# Altium footprint library Passive.PcbLib: 235 footprints (part 2 of 15)
Each footprint in its own frame and in the unit in brackets; x right, y up, seen from the top. Pads: shape width x height; smd on the part's side, far side on the other; paste and mask are expansions set on the pad; w line width, h text height; cw(c..) or ccw(c..) is an arc to the next point about the centre after c.
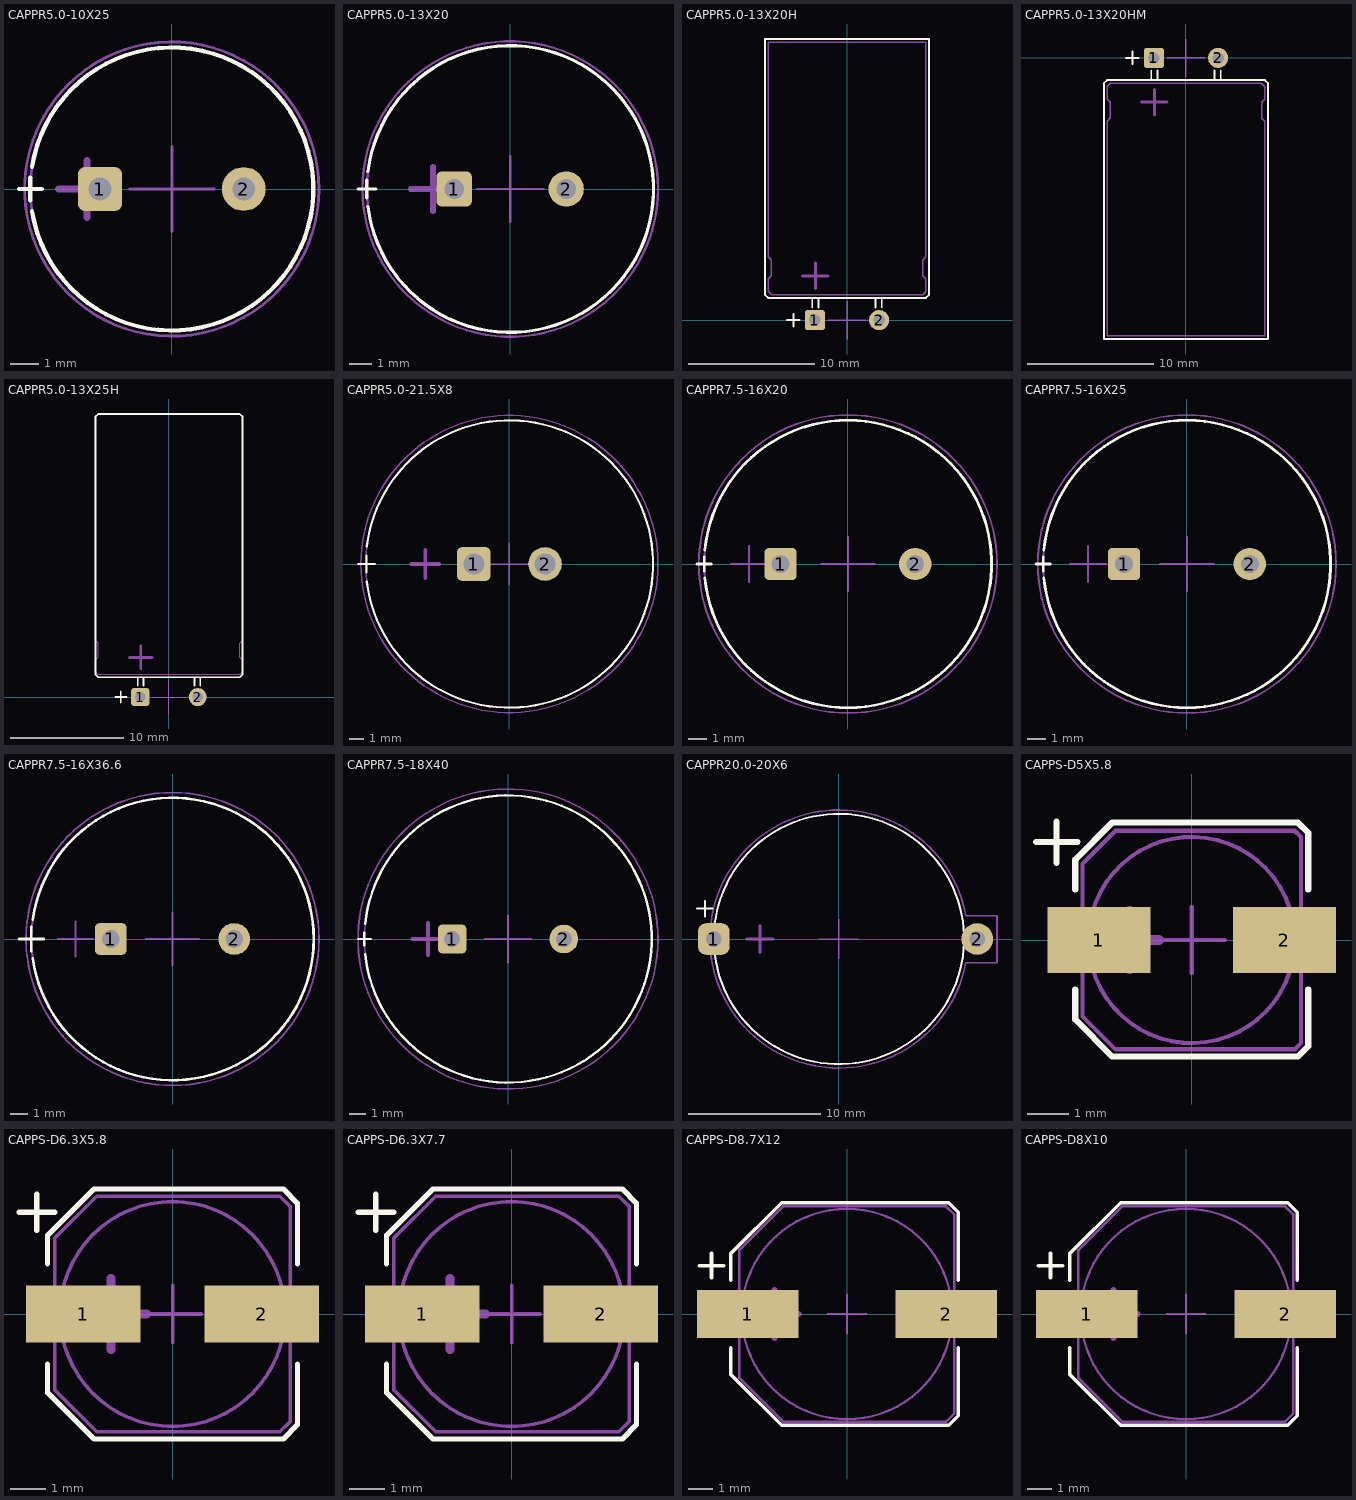
[diagram p1: the footprints below, top view; thin cyan lines are the x and y axes]

## CAPPR5.0-10X25 [mm] "Capacitor polarized radial D10x25mm R5.0mm"
height 25
pads (2):
  rrect30% 1.55x1.55 hole 0.8: 1(-2.54,0)
  round 1.55 hole 0.8: 2(2.54,0)
Top Overlay:
  lines w0.15: -5.4,0 -4.6,0 ; -5,-0.4 -5,0.4 ; -4.938,-0.782 ccw(c0,0) -4.938,0.782
Mechanical 13:
  circle w0.1: c0,0 r5
  lines w0.25: -4,0 -2,0 ; -3,-1 -3,1
Mechanical 15:
  circle w0.1: c0,0 r5.2
  lines w0.102: -1.5,0 1.5,0 ; 0,-1.5 0,1.5
3D body: height 25, standoff 0, extent -5,-5 5,5

## CAPPR5.0-13X20 [mm] "Capacitor polarized radial D13x20mm R5.0mm"
height 20
pads (2):
  rrect30% 1.6x1.6 hole 0.9: 1(-2.54,0)
  round 1.6 hole 0.9: 2(2.54,0)
Top Overlay:
  lines w0.15: -6.9,0 -6.1,0 ; -6.5,-0.4 -6.5,0.4 ; -6.452,-0.792 ccw(c0,0) -6.452,0.792
Mechanical 13:
  circle w0.1: c0,0 r6.5
  lines w0.25: -4.5,0 -2.5,0 ; -3.5,-1 -3.5,1
Mechanical 15:
  circle w0.1: c0,0 r6.7
  lines w0.102: -1.5,0 1.5,0 ; 0,-1.5 0,1.5
3D body: height 20, standoff 0, extent -6.5,-6.5 6.5,6.5

## CAPPR5.0-13X20H [mm] "Capacitor polarized radial D13x20mm R5.0mm horizontal"
height 13
pads (2):
  rrect30% 1.6x1.6 hole 0.9: 1(-2.54,0)
  round 1.6 hole 0.9: 2(2.54,0)
Top Overlay:
  lines w0.15: -4.75,0 -3.75,0 ; -4.25,-0.5 -4.25,0.5 ; -2.75,1 -2.75,1.75 ; -2.25,1 -2.25,1.75 ; 2.25,1 2.25,1.75 ; 2.75,1 2.75,1.75 ; -6.25,1.75 -6.25,1.75 ; -6.25,1.75 6.25,1.75 6.5,2 6.5,22.25 -6.5,22.25 -6.5,2 -6.25,1.75
Mechanical 13:
  lines w0.102: -6.25,2.275 -6.25,3.275 -6,3.525 -6,4.775 -6.25,5.025 -6.25,22 6.25,22 6.25,5 6,4.75 6,3.5 6.25,3.25 6.25,2.25 6,2 -5.975,2 -6.25,2.275
  lines w0.25: -3.5,3.5 -1.5,3.5 ; -2.5,2.5 -2.5,4.5
Mechanical 15:
  lines w0.102: -1.5,0 1.5,0 ; 0,-1.5 0,1.5
3D body: height 10.27, standoff 2.3, extent -3.992,21.55 3.992,22.05
3D body: height 10.27, standoff 2.3, extent -3.992,1.975 3.992,2.475
3D body: height 6.6, standoff 6, extent -2.85,-0.3 -2.253,0.297
3D body: height 6.6, standoff 6, extent -2.85,-0.001 -2.251,2.099
3D body: height 6.3, standoff -3, extent -2.85,-0.3 -2.252,0.299
3D body: height 12.5, standoff 0.05, extent -6.238,2 6.238,3.5
3D body: height 12.15, standoff 0.4, extent -5.888,3.5 5.888,4.75
3D body: height 12.5, standoff 0.05, extent -6.238,4.75 6.238,22
3D body: height 6.3, standoff -3, extent 2.252,-0.3 2.85,0.299
3D body: height 6.6, standoff 6, extent 2.251,-0.001 2.85,2.099
3D body: height 6.6, standoff 6, extent 2.253,-0.3 2.85,0.297

## CAPPR5.0-13X20HM [mm] "Capacitor polarized radial D13x20mm R5.0mm horizontal mirrored"
height 13
pads (2):
  rrect30% 1.6x1.6 hole 0.9: 1(-2.54,0)
  round 1.6 hole 0.9: 2(2.54,0)
Top Overlay:
  lines w0.15: -4.75,0 -3.75,0 ; -4.25,-0.5 -4.25,0.5 ; -2.75,-1.75 -2.75,-1 ; -2.25,-1.75 -2.25,-1 ; 2.25,-1.75 2.25,-1 ; 2.75,-1.75 2.75,-1 ; 6.25,-1.75 6.5,-2 6.5,-22.25 -6.5,-22.25 -6.5,-2 -6.25,-1.75 6.25,-1.75 ; 6.25,-1.75 6.25,-1.75
Mechanical 13:
  lines w0.102: -6.25,-22 -6.25,-5 -6,-4.75 -6,-3.5 -6.25,-3.25 -6.25,-2.25 -6,-2 5.975,-2 6.25,-2.275 6.25,-3.275 6,-3.525 6,-4.775 6.25,-5.025 6.25,-22 -6.25,-22
  lines w0.25: -3.5,-3.5 -1.5,-3.5 ; -2.5,-4.5 -2.5,-2.5
Mechanical 15:
  lines w0.102: -1.5,0 1.5,0 ; 0,-1.5 0,1.5
3D body: height 6.6, standoff 6, extent -2.85,-0.297 -2.253,0.3
3D body: height 6.6, standoff 6, extent -2.85,-2.099 -2.251,0.001
3D body: height 6.3, standoff -3, extent -2.85,-0.299 -2.252,0.3
3D body: height 12.5, standoff 0.05, extent -6.238,-22 6.238,-4.75
3D body: height 12.15, standoff 0.4, extent -5.888,-4.75 5.888,-3.5
3D body: height 12.5, standoff 0.05, extent -6.238,-3.5 6.238,-2
3D body: height 6.3, standoff -3, extent 2.252,-0.299 2.85,0.3
3D body: height 6.6, standoff 6, extent 2.251,-2.099 2.85,0.001
3D body: height 6.6, standoff 6, extent 2.253,-0.297 2.85,0.3
3D body: height 10.27, standoff 2.3, extent -3.992,-2.475 3.992,-1.975
3D body: height 10.27, standoff 2.3, extent -3.992,-22.05 3.992,-21.55

## CAPPR5.0-13X25H [mm] "Capacitor polarized radial D13x20mm R5.0mm horizontal"
height 13
pads (2):
  rrect30% 1.6x1.6 hole 0.9: 1(-2.54,0)
  round 1.6 hole 0.9: 2(2.54,0)
Top Overlay:
  lines w0.15: -4.75,0 -3.75,0 ; -4.25,-0.5 -4.25,0.5 ; -2.75,1 -2.75,1.75 ; -2.25,1 -2.25,1.75 ; 2.25,1 2.25,1.75 ; 2.75,1 2.75,1.75 ; -6.25,1.75 -6.5,2 -6.5,24.75 -6.25,25 6.25,25 6.5,24.75 6.5,2 6.25,1.75 -6.25,1.75 ; -6.25,1.75 -6.25,1.75
Mechanical 13:
  lines w0.102: -6.5,2.25 -6.25,2 6.25,2 6.5,2.25 6.5,3.25 6.25,3.5 6.25,4.75 6.5,5 6.5,24.75 6.25,25 -6.25,25 -6.5,24.75 -6.5,5 -6.25,4.75 -6.25,3.5 -6.5,3.25 -6.5,2.25
  lines w0.25: -3.5,3.5 -1.5,3.5 ; -2.5,2.5 -2.5,4.5
Mechanical 15:
  lines w0.102: -1.5,0 1.5,0 ; 0,-1.5 0,1.5

## CAPPR5.0-21.5X8 [mm] "Capacitor polarized radial D21.5x8mm R5.0mm GoldCAP"
height 8
pads (2):
  rrect30% 2.4x2.4 hole 1.5: 1(-2.54,0)
  round 2.4 hole 1.5: 2(2.54,0)
Top Overlay:
  lines w0.15: -10.8,0 -9.6,0 ; -10.183,-0.6 -10.183,0.6 ; -10.174,-1.249 ccw(c0,0) -10.174,1.249
Mechanical 13:
  circle w0.1: c0,0 r10.25
  lines w0.25: -7,0 -5,0 ; -6,-1 -6,1
Mechanical 15:
  circle w0.1: c0,0 r10.6
  lines w0.102: -1.5,0 1.5,0 ; 0,-1.5 0,1.5
3D body: height 8.02, standoff 8, extent -7.239,-1.27 -4.699,1.27
3D body: height 8, standoff 0, extent -10.249,-10.249 10.249,10.249
3D body: height 8.01, standoff 8, extent -8.1,-8.1 8.1,8.1
3D body: height 0, standoff -3.2, extent -3.175,-0.635 -1.905,0.635
3D body: height 0, standoff -3.2, extent 1.905,-0.635 3.175,0.635

## CAPPR7.5-16X20 [mm] "Capacitor polarized radial D16x20mm R7.5mm"
height 25
pads (2):
  rrect30% 1.8x1.8 hole 1: 1(-3.75,0)
  round 1.8 hole 1: 2(3.75,0)
Top Overlay:
  lines w0.15: -8.4,0 -7.6,0 ; -8,-0.4 -8,0.4 ; -7.963,-0.767 ccw(c0,0) -7.963,0.767
Mechanical 13:
  circle w0.1: c0,0 r8
  lines w0.1: -6.5,0 -4.5,0 ; -5.5,-1 -5.5,1
Mechanical 15:
  circle w0.1: c0,0 r8.3
  lines w0.102: -1.5,0 1.5,0 ; 0,-1.5 0,1.5
3D body: height 20, standoff 0, extent -8,-8 8,8
3D body: height 0, standoff -3.5, extent -3.9,-0.4 -3.1,0.4
3D body: height 0, standoff -3.5, extent 3.1,-0.4 3.9,0.4
3D body: height 20.05, standoff 20, extent -6.5,-6.5 6.5,6.5

## CAPPR7.5-16X25 [mm] "Capacitor polarized radial D16x25mm R7.5mm"
height 25
pads (2):
  rrect30% 1.8x1.8 hole 1: 1(-3.5,0)
  round 1.8 hole 1: 2(3.5,0)
Top Overlay:
  lines w0.15: -8.4,0 -7.6,0 ; -8,-0.4 -8,0.4 ; -7.963,-0.767 ccw(c0,0) -7.963,0.767
Mechanical 13:
  circle w0.1: c0,0 r8
  lines w0.1: -6.5,0 -4.5,0 ; -5.5,-1 -5.5,1
Mechanical 15:
  circle w0.1: c0,0 r8.3
  lines w0.102: -1.5,0 1.5,0 ; 0,-1.5 0,1.5
3D body: height 16.05, standoff 16, extent -6.5,-6.5 6.5,6.5
3D body: height 0, standoff -3.5, extent 3.1,-0.4 3.9,0.4
3D body: height 0, standoff -3.5, extent -3.9,-0.4 -3.1,0.4
3D body: height 16, standoff 0, extent -8,-8 8,8

## CAPPR7.5-16X36.6 [mm] "Capacitor polarized radial D16x36.6mm R7.5mm"
height 36.6
pads (2):
  rrect30% 1.8x1.8 hole 1: 1(-3.5,0)
  round 1.8 hole 1: 2(3.5,0)
Top Overlay:
  lines w0.15: -8.7,0 -7.3,0 ; -8,-0.7 -8,0.7 ; -7.924,-1.103 ccw(c0,0) -7.924,1.103
Mechanical 13:
  circle w0.1: c0,0 r8
  lines w0.1: -6.5,0 -4.5,0 ; -5.5,-1 -5.5,1
Mechanical 15:
  circle w0.1: c0,0 r8.3
  lines w0.102: -1.5,0 1.5,0 ; 0,-1.5 0,1.5
3D body: height 36.65, standoff 16, extent -6.5,-6.5 6.5,6.5
3D body: height 0, standoff -3.5, extent 3.1,-0.4 3.9,0.4
3D body: height 0, standoff -3.5, extent -3.9,-0.4 -3.1,0.4
3D body: height 36.6, standoff 0, extent -8,-8 8,8
3D body: height 36.65, standoff 0.3, extent 6.325,-1.5 8.05,1.5

## CAPPR7.5-18X40 [mm] "Capacitor polarized radial D18x40mm R7.5mm"
height 40
pads (2):
  rrect30% 1.8x1.8 hole 1: 1(-3.5,0)
  round 1.8 hole 1: 2(3.5,0)
Top Overlay:
  lines w0.15: -9.4,0 -8.6,0 ; -9,-0.4 -9,0.4 ; -8.951,-0.941 ccw(c0,0) -8.951,0.941
Mechanical 13:
  circle w0.1: c0,0 r9
  lines w0.25: -6,0 -4,0 ; -5,-1 -5,1
Mechanical 15:
  circle w0.1: c0,0 r9.4
  lines w0.102: -1.5,0 1.5,0 ; 0,-1.5 0,1.5
3D body: height 40, standoff 0, extent -9,-9 9,9

## CAPPR20.0-20X6 [mm] "Capacitor polarized radial D20.0x6mm R20.0mm GoldCAP"
height 6
pads (2):
  rrect50% 2.4x2.4 hole 1.2: 1(-9.5,0)
  round 2.4 hole 1.2: 2(10.5,0)
Top Overlay:
  lines w0.15: -10.775,2.3 -9.592,2.3 ; -10.175,1.7 -10.175,2.9 ; -9.429,1.158 cw(c0,0) -9.425,-1.188
Mechanical 13:
  circle w0.1: c0,0 r9.5
  lines w0.25: -7,0 -5,0 ; -6,-1 -6,1
Mechanical 15:
  lines w0.102: -1.5,0 1.5,0 ; 0,-1.5 0,1.5
  lines w0.127: 9.625,-1.8 12,-1.8 12,1.767 9.639,1.767 ; 9.633,-1.801 cw(c0,0) 9.639,1.77
3D body: height 0.2, standoff -3.5, extent -9.7,-0.575 -9.35,0.55
3D body: height 5.8, standoff -3.5, extent 10.3,-0.575 10.65,0.55
3D body: height 6, standoff 5.8, extent -1.7,-1.3 10.643,1.3
3D body: height 0.2, standoff 0, extent -9.703,-1.3 1.7,1.3
3D body: height 5.8, standoff 0.2, extent -9.5,-9.5 9.5,9.5
3D body: height 5.81, standoff 0.19, extent -8.1,-8.1 8.1,8.1

## CAPPS-D5X5.8 [mm] "Capacitor polarised SMD D5; 5.3x5.3x5.8mm"
height 5.8
pads (2):
  rect 2.5x1.6 smd: 1(-2.25,0) 2(2.25,0)
Top Overlay:
  lines w0.15: -3.775,2.375 -2.775,2.375 ; -3.275,1.875 -3.275,2.875 ; -2.825,-1.2 -2.825,-1.925 -1.925,-2.825 2.575,-2.825 2.825,-2.575 2.825,-1.2 ; -2.825,1.225 -2.825,1.95 -1.925,2.85 2.575,2.85 2.825,2.6 2.825,1.225
Mechanical 13:
  circle w0.1: c0,0 r2.5
  lines w0.102: -2.65,-1.85 -2.65,1.85 -1.85,2.65 2.5,2.65 2.65,2.5 2.65,-2.5 2.5,-2.65 -1.85,-2.65 -2.65,-1.85
  lines w0.25: -2.2,0 -0.8,0 ; -1.5,-0.7 -1.5,0.7
Mechanical 15:
  lines w0.102: -0.8,0 0.8,0 ; 0,-0.8 0,0.8
3D body: height 5.8, standoff 1, extent -2.505,-2.501 2.475,2.489
3D body: height 5.81, standoff 5.8, extent 1.575,-1.925 2.5,1.925
3D body: height 1, standoff 0, extent -2.65,-2.65 2.65,2.65

## CAPPS-D6.3X5.8 [mm] "Capacitor polarised SMD D6.3; 6.6x6.6x5.8mm"
height 5.8
pads (2):
  rect 3.2x1.6 smd: 1(-2.5,0) 2(2.5,0)
Top Overlay:
  lines w0.15: -4.3,2.85 -3.3,2.85 ; -3.8,2.35 -3.8,3.35 ; -3.5,-1.4 -3.5,-2.2 -2.2,-3.5 3.1,-3.5 3.5,-3.1 3.5,-1.4 ; -3.5,1.4 -3.5,2.2 -2.2,3.5 3.1,3.5 3.5,3.1 3.5,1.4
Mechanical 13:
  circle w0.1: c0,0 r3.15
  lines w0.102: -3.3,-2.127 -3.3,2.126 -2.125,3.3 3,3.3 3.3,3 3.3,-3 3,-3.3 -2.125,-3.3 -3.299,-2.126
  lines w0.25: -2.725,0 -0.725,0 ; -1.725,-1 -1.725,1
Mechanical 15:
  lines w0.102: -0.8,0 0.8,0 ; 0,-0.8 0,0.8
3D body: height 1, standoff 0, extent -3.3,-3.3 3.3,3.3
3D body: height 5.81, standoff 5.8, extent 1.9,-2.525 3.15,2.525
3D body: height 5.8, standoff 1, extent -3.15,-3.15 3.125,3.138

## CAPPS-D6.3X7.7 [mm] "Capacitor polarised SMD D6.3; 6.6x6.6x7.7mm"
height 7.7
pads (2):
  rect 3.2x1.6 smd: 1(-2.5,0) 2(2.5,0)
Top Overlay:
  lines w0.15: -4.3,2.85 -3.3,2.85 ; -3.8,2.35 -3.8,3.35 ; -3.5,-1.4 -3.5,-2.2 -2.2,-3.5 3.1,-3.5 3.5,-3.1 3.5,-1.4 ; -3.5,1.4 -3.5,2.2 -2.2,3.5 3.1,3.5 3.5,3.1 3.5,1.4
Mechanical 13:
  circle w0.1: c0,0 r3.15
  lines w0.102: -3.3,-2.127 -3.3,2.126 -2.125,3.3 3,3.3 3.3,3 3.3,-3 3,-3.3 -2.125,-3.3 -3.299,-2.126
  lines w0.25: -2.725,0 -0.725,0 ; -1.725,-1 -1.725,1
Mechanical 15:
  lines w0.102: -0.8,0 0.8,0 ; 0,-0.8 0,0.8
3D body: height 7.7, standoff 1, extent -3.15,-3.15 3.125,3.138
3D body: height 7.71, standoff 7.7, extent 1.9,-2.525 3.15,2.525
3D body: height 1, standoff 0, extent -3.3,-3.3 3.3,3.3

## CAPPS-D8.7X12 [mm] "Capacitor polarised SMD D8.7; 8.9X8.9X12"
height 12
pads (2):
  rect 4.2x2 smd: 1(-4.1,0) 2(4.1,0)
Top Overlay:
  lines w0.15: -6.1,2 -5.1,2 ; -5.6,1.5 -5.6,2.5 ; -4.8,-1.4 -4.8,-2.5 -2.7,-4.6 4.2,-4.6 4.6,-4.2 4.6,-1.4 ; -4.8,1.4 -4.8,2.5 -2.7,4.6 4.2,4.6 4.6,4.2 4.6,1.4
Mechanical 13:
  circle w0.1: c0,0 r4.35
  lines w0.102: 4.425,4.125 4.425,4.125 ; 4.425,4.125 4.425,-4.125 4.1,-4.45 -2.65,-4.45 -4.45,-2.65 -4.45,2.65 -2.65,4.45 4.1,4.45 4.425,4.125
  lines w0.25: -4,0 -2,0 ; -3,-1 -3,1
Mechanical 15:
  lines w0.102: -0.8,0 0.8,0 ; 0,-0.8 0,0.8
3D body: height 12.1, standoff 12, extent -4.1,-4.1 4.1,4.1
3D body: height 1.4, standoff 0, extent -4.45,-4.45 4.425,4.45
3D body: height 12, standoff 1.4, extent -4.35,-4.35 4.35,4.35

## CAPPS-D8X10 [mm] "Capacitor polarised SMD D8; 8.3X8.3X10.2"
height 10.2
pads (2):
  rect 4.2x2 smd: 1(-4.1,0) 2(4.1,0)
Top Overlay:
  lines w0.15: -6.1,2 -5.1,2 ; -5.6,1.5 -5.6,2.5 ; -4.8,-1.4 -4.8,-2.5 -2.7,-4.6 4.2,-4.6 4.6,-4.2 4.6,-1.4 ; -4.8,1.4 -4.8,2.5 -2.7,4.6 4.2,4.6 4.6,4.2 4.6,1.4
Mechanical 13:
  circle w0.1: c0,0 r4.35
  lines w0.102: 4.425,4.125 4.425,4.125 ; 4.425,4.125 4.425,-4.125 4.1,-4.45 -2.65,-4.45 -4.45,-2.65 -4.45,2.65 -2.65,4.45 4.1,4.45 4.425,4.125
  lines w0.25: -4,0 -2,0 ; -3,-1 -3,1
Mechanical 15:
  lines w0.102: -0.8,0 0.8,0 ; 0,-0.8 0,0.8
3D body: height 12.1, standoff 12, extent -4.1,-4.1 4.1,4.1
3D body: height 1.4, standoff 0, extent -4.45,-4.45 4.425,4.45
3D body: height 12, standoff 1.4, extent -4.35,-4.35 4.35,4.35